# EAGLE library part EZG-?-306 (library con-lemo)
LEMO Connector Source: http://www.lemo.com/pdfs/catalog/ROW/German/unipole_multipole.pdf
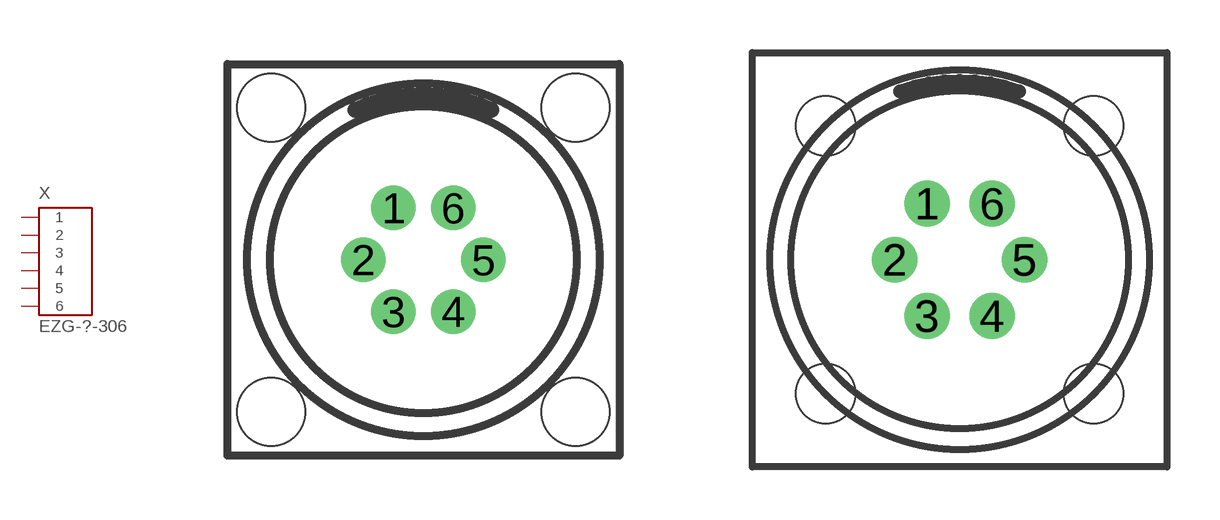
[diagram p11: symbol with the pads of EZG-0B-0K-306; footprints EZG-0B-0K-306, EZG-1B-1K-306]

Designator prefix X

## EZG-0B-306 (OC_FARNELL: unknown; OC_NEWARK: unknown)  [EZG-0B-0K-306]
1  1  pas
2  2  pas
3  3  pas
4  4  pas
5  5  pas
6  6  pas

## EZG-0K-306 (OC_FARNELL: unknown; OC_NEWARK: unknown)  [EZG-0B-0K-306]
Pads as for EZG-0B-0K-306

## EZG-1B-306 (OC_FARNELL: unknown; OC_NEWARK: unknown)  [EZG-1B-1K-306]
Pads as for EZG-0B-0K-306

## EZG-1K-306 (OC_FARNELL: unknown; OC_NEWARK: unknown)  [EZG-1B-1K-306]
Pads as for EZG-0B-0K-306

## EZG-2B-306 (OC_FARNELL: unknown; OC_NEWARK: unknown)  [EZG-2B-2K-306]
Pads as for EZG-0B-0K-306

## EZG-2K-306 (OC_FARNELL: unknown; OC_NEWARK: unknown)  [EZG-2B-2K-306]
Pads as for EZG-0B-0K-306

## Footprint EZG-0B-0K-306 (pad centres in mm)
LEMO Connector Source: http://www.lemo.com/pdfs/catalog/ROW/German/unipole_multipole.pdf
drill 0.6 pad 1.1: 1 -0.75,1.299; 2 -1.5,0; 3 -0.75,-1.299; 4 0.75,-1.299; 5 1.5,0; 6 0.75,1.299
hole 1.7 at -3.81,3.81
hole 1.7 at 3.81,3.81
hole 1.7 at 3.81,-3.81
hole 1.7 at -3.81,-3.81

## Footprint EZG-1B-1K-306 (pad centres in mm)
LEMO Connector Source: http://www.lemo.com/pdfs/catalog/ROW/German/unipole_multipole.pdf
drill 0.8 pad 1.3: 1 -0.925,1.602; 2 -1.85,0; 3 -0.925,-1.602; 4 0.925,-1.602; 5 1.85,0; 6 0.925,1.602
hole 1.7 at -3.81,3.81
hole 1.7 at 3.81,3.81
hole 1.7 at 3.81,-3.81
hole 1.7 at -3.81,-3.81

## Footprint EZG-2B-2K-306 (pad centres in mm)
LEMO Connector Source: http://www.lemo.com/pdfs/catalog/ROW/German/unipole_multipole.pdf
drill 0.8 pad 1.2: 1 0,2.8; 2 -2.663,0.865; 3 -1.646,-2.265; 4 1.646,-2.265; 5 2.663,0.865; 6 0,0
hole 1.7 at -5.08,5.08
hole 1.7 at 5.08,5.08
hole 1.7 at 5.08,-5.08
hole 1.7 at -5.08,-5.08